# EAGLE library part ST62T60CB6 (library ST Microelectronics)
8-BIT OTP/EPROM MCU
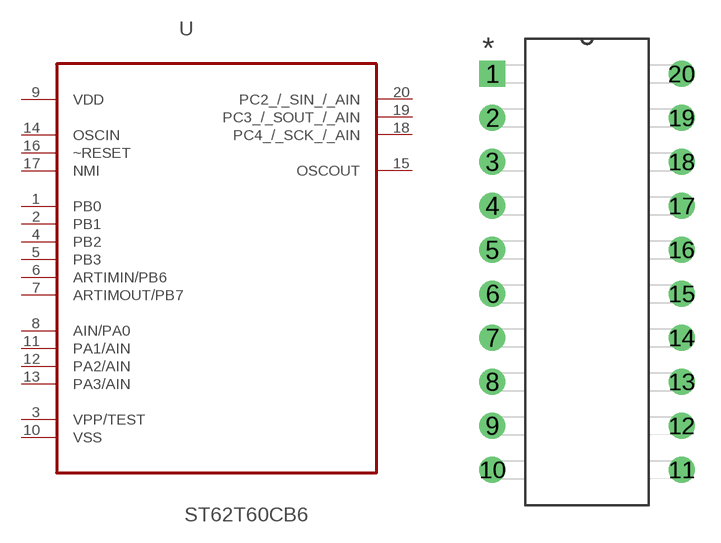
[diagram p310: symbol with the pads of DIP254P1092X533-20; footprint DIP254P1092X533-20]

Designator prefix U

## ST62T60CB6 (MPN: ST62T60CB6; OC_FARNELL: 1094332; OC_NEWARK: 26M3864; PACKAGE: DIP-20; SUPPLIER: STMicroelectronics)  [DIP254P1092X533-20]
1  PB0
2  PB1
3  VPP/TEST  pas
4  PB2
5  PB3
6  ARTIMIN/PB6
7  ARTIMOUT/PB7
8  AIN/PA0
9  VDD  pwr
10  VSS  pas
11  PA1/AIN
12  PA2/AIN
13  PA3/AIN
14  OSCIN  in
15  OSCOUT  out
16  ~RESET  in
17  NMI  in
18  PC4_/_SCK_/_AIN
19  PC3_/_SOUT_/_AIN
20  PC2_/_SIN_/_AIN

## Footprint DIP254P1092X533-20 (pad centres in mm)
drill 0.991 square: 1 -10.922,22.86
drill 0.991: 2 -10.922,20.32; 3 -10.922,17.78; 4 -10.922,15.24; 5 -10.922,12.7; 6 -10.922,10.16; 7 -10.922,7.62; 8 -10.922,5.08; 9 -10.922,2.54; 10 -10.922,0; 11 0,0; 12 0,2.54; 13 0,5.08; 14 0,7.62; 15 0,10.16; 16 0,12.7; 17 0,15.24; 18 0,17.78; 19 0,20.32; 20 0,22.86